# Altium footprint library PPTC041LFBN-RC.PCBLIB: 1 footprints
Each footprint in its own frame and in the unit in brackets; x right, y up, seen from the top. Pads: shape width x height; smd on the part's side, far side on the other; paste and mask are expansions set on the pad; w line width, h text height; cw(c..) or ccw(c..) is an arc to the next point about the centre after c.
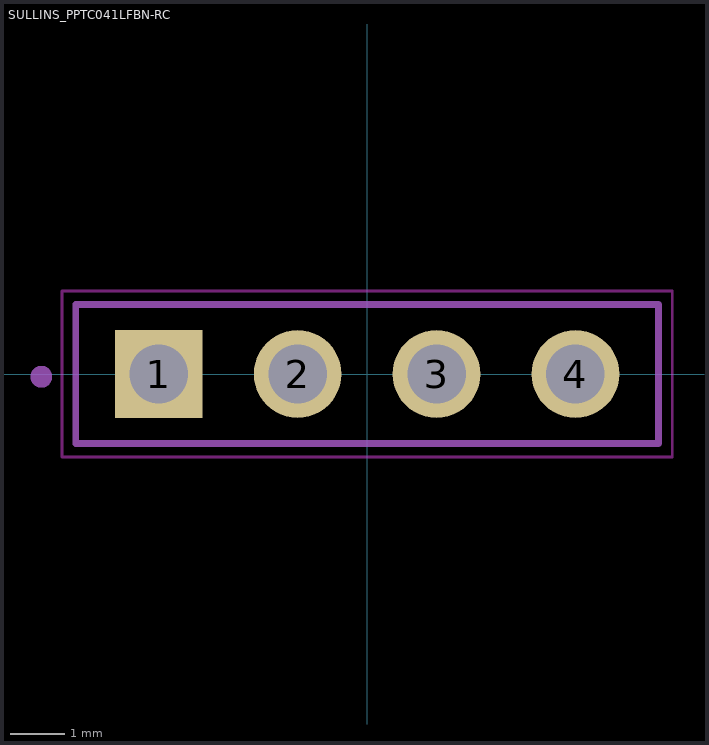
[diagram p0: the footprint, top view; thin cyan lines are the x and y axes]

## SULLINS_PPTC041LFBN-RC [mil]
pads (4):
  rect 63.2x63.2 / inner round 58.38 / far side rect 63.2x63.2 hole 42.13: 1(-150,0)
  round 63.2 hole 42.13: 2(-50,0) 3(50,0) 4(150,0)
Top keep-out:
  lines w1.97: -219.69,-59.84 219.69,-59.84 219.69,59.84 -219.69,59.84 -219.69,-59.84
tDocu:
  circle w7.87: c-234.65,-1.97 r3.94
  lines w5: -209.84,-50 209.84,-50 209.84,50 -209.84,50 -209.84,-50
tPlace:
  circle w7.87: c-234.65,-1.97 r3.94
  lines w5: -209.84,-50 209.84,-50 209.84,50 -209.84,50 -209.84,-50
3D body "PPTC041LFBN-RC--3DModel-STEP-56544.STEP": height 335, standoff -126, extent -210,-50 210,50